# Altium schematic symbol library Res1 73.SCHLIB: 1 symbol
Pins are listed as number, name and electrical type; pins without a type are passive.

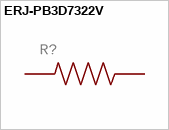
[diagram p0: symbol ERJ-PB3D7322V]

## ERJ-PB3D7322V
designator R?
GateName_1: G$1; SymbolName_1: ERJ-PB3D7322V; Description: Res Thick Film 0603 73.2K Ohm 0.5% 0.2W(1/5W) ±50ppm/°C Pad SMD Automotive T/R; MF: Panasonic; LibraryName: Res1 73.2k; DeviceSetName: ERJ-PB3D7322V; Package: RESC1608X55N; MP: ERJ-PB3D7322V; Package: 1608 Panasonic Electronic Components
footprint RESC1608X55N
pins: 1, 2